# Altium schematic symbol library AMIDA7.SchLib: 26 symbols
Pins are listed as number, name and electrical type; pins without a type are passive.

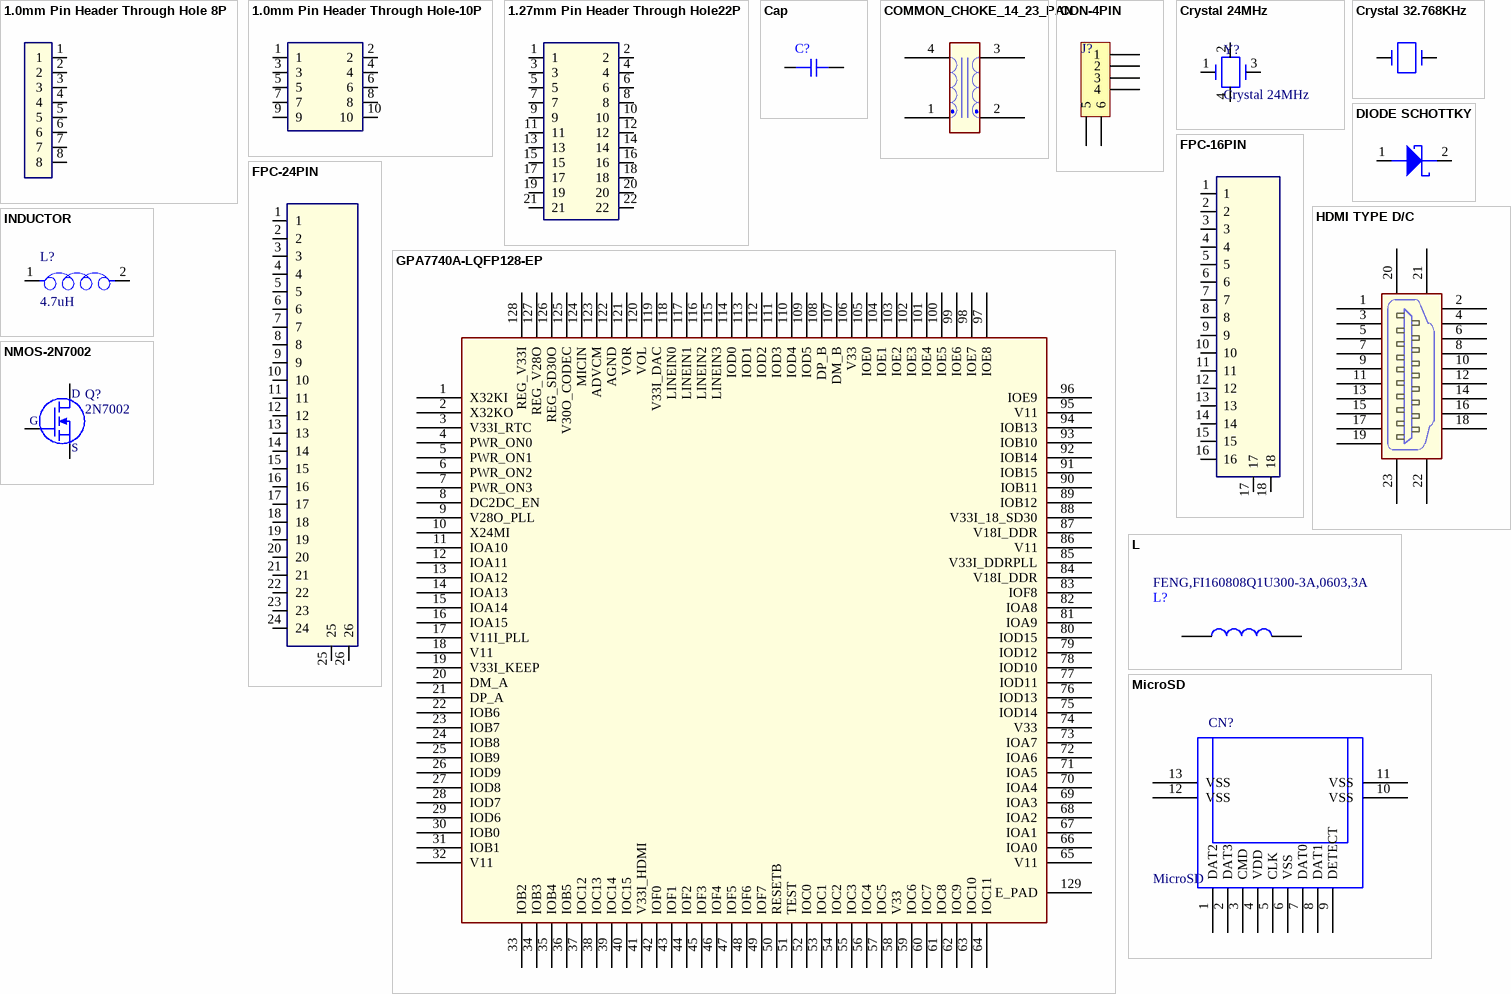
[diagram p0: symbols 1.0mm Pin Header Through Hole 8P to NMOS-2N7002]

## 1.0mm Pin Header Through Hole 8P
designator PANASONIC/EXC24CH900U, comment Pin Header-8pin  (value not drawn)
1.0mm Pin Header Through Hole-8P
footprint 1.0mm Pin Header Through Hole-8P (8P(1x8))
pins: 1, 2, 3, 4, 5, 6, 7, 8

## 1.0mm Pin Header Through Hole-10P
designator J?, comment Pin Header-10pin  (value not drawn)
1.0mm Pin Header Through Hole-10P
footprint 1.0mm Pin Header Through Hole-10P (10P(2x5))
pins: 1, 2, 3, 4, 5, 6, 7, 8, 9, 10

## 1.27mm Pin Header Through Hole22P
designator J?, comment Pin Header-22pin  (value not drawn)
1.27mm Pin Header Through Hole-22P
footprint 1.27mm Pin Header Through Hole-22P (22P(2x11))
pins: 1, 2, 3, 4, 5, 6, 7, 8, 9, 10, 11, 12, 13, 14, 15, 16, 17, 18, 19, 20, 21, 22

## Cap
designator C?
footprint C0402
footprint C0603 (CAP_0603)
footprint C0805
pins: 1, 2

## COMMON_CHOKE_14_23_PAN
designator L?
footprint CHOKE_EXC-24CH900U_PAN
pins: 1, 2, 3, 4

## CON-4PIN
designator J?
footprint P20M2I-04SMT
pins: 1, 2, 3, 4, 5, 6

## Crystal 24MHz
designator Y?
XRCGE24M000FBA1BR0,MURATA,24.0000MHZ,8PF,15PPM,2.0x1.6mm
footprint Crystal 24MHz (XRCGE24M000FBA1BR0,MURATA,24.0000MHZ,8PF,15PPM,2.0x1.6mm)
pins: 1, 2, 3, 4

## Crystal 32.768KHz
designator Y?
Q-SC20S03220C5AAAF,SEIKO,l32.768KHz,12.5PF,20ppm,2.05x1.2mm
footprint Crystal 32.768KHz (Seiko Instruments)
pins: 1, 2

## DIODE SCHOTTKY
designator D?, comment SS14  (value not drawn)
Schottky Diodes & Rectifiers 1A, 40V, Schottky Rectifier
footprint DO-214AC (SMA) (SS14)
pins: 1 ANODE, 2 CATHODE

## FPC-16PIN
designator FPC?  (value not drawn)
WIFI/BLE  FPC-16PIN
footprint MOLEX_FPC_16p (5051101692)
footprint FPC-0.5 pitch 16PIN (冠泰)
pins: 1, 2, 3, 4, 5, 6, 7, 8, 9, 10, 11, 12, 13, 14, 15, 16, 17, 18

## FPC-24PIN
designator FPC?  (value not drawn)
MIPI FPC-24PIN
footprint MOLEX_FPC_24p (5051102491)
footprint FPC-0.5 pitch 24PIN (冠泰)
pins: 1, 2, 3, 4, 5, 6, 7, 8, 9, 10, 11, 12, 13, 14, 15, 16, 17, 18, 19, 20, 21, 22, 23, 24, 25, 26

## GPA7740A-LQFP128-EP
designator U?
footprint TQFP128P 1600X1600X160-129N (GPA7740A)
pins: 1 X32KI, 2 X32KO, 3 V33I_RTC, 4 PWR_ON0, 5 PWR_ON1, 6 PWR_ON2, 7 PWR_ON3, 8 DC2DC_EN, 9 V28O_PLL, 10 X24MI, 11 IOA10, 12 IOA11, 13 IOA12, 14 IOA13, 15 IOA14, 16 IOA15, 17 V11I_PLL, 18 V11, 19 V33I_KEEP, 20 DM_A, 21 DP_A, 22 IOB6, 23 IOB7, 24 IOB8, 25 IOB9, 26 IOD9, 27 IOD8, 28 IOD7, 29 IOD6, 30 IOB0, 31 IOB1, 32 V11, 33 IOB2, 34 IOB3, 35 IOB4, 36 IOB5, 37 IOC12, 38 IOC13, 39 IOC14, 40 IOC15, 41 V33I_HDMI, 42 IOF0, 43 IOF1, 44 IOF2, 45 IOF3, 46 IOF4, 47 IOF5, 48 IOF6, 49 IOF7, 50 RESETB, 51 TEST, 52 IOC0, 53 IOC1, 54 IOC2, 55 IOC3, 56 IOC4, 57 IOC5, 58 V33, 59 IOC6, 60 IOC7, 61 IOC8, 62 IOC9, 63 IOC10, 64 IOC11, 65 V11, 66 IOA0, 67 IOA1, 68 IOA2, 69 IOA3, 70 IOA4, 71 IOA5, 72 IOA6, 73 IOA7, 74 V33, 75 IOD14, 76 IOD13, 77 IOD11, 78 IOD10, 79 IOD12, 80 IOD15, 81 IOA9, 82 IOA8, 83 IOF8, 84 V18I_DDR, 85 V33I_DDRPLL, 86 V11, 87 V18I_DDR, 88 V33I_18_SD30, 89 IOB12, 90 IOB11, 91 IOB15, 92 IOB14, 93 IOB10, 94 IOB13, 95 V11, 96 IOE9, 97 IOE8, 98 IOE7, 99 IOE6, 100 IOE5, 101 IOE4, 102 IOE3, 103 IOE2, 104 IOE1, 105 IOE0, 106 V33, 107 DM_B, 108 DP_B, 109 IOD5, 110 IOD4, 111 IOD3, 112 IOD2, 113 IOD1, 114 IOD0, 115 LINEIN3, 116 LINEIN2, 117 LINEIN1, 118 LINEIN0, 119 V33I_DAC, 120 VOL, 121 VOR, 122 AGND, 123 ADVCM, 124 MICIN, 125 V30O_CODEC, 126 REG_SD30O, 127 REG_V28O, 128 REG_V33I, 129 E_PAD

## HDMI TYPE D/C
designator HDMI?, comment HDMI TYPE C  (value not drawn)
footprint HDMI TYPE D
footprint HDMI TYPE C
pins: 1 $PIN0, 2, 3, 4, 5, 6, 7, 8, 9, 10, 11, 12, 13, 14, 15, 16, 17, 18, 19, 20, 21, 22, 23

## INDUCTOR
designator L?, comment 4.7uH
footprint IND-HPI0402 (HPI 04 SERIES)
pins: 1, 2

## L
designator L?, comment FENG,FI160808Q1U300-3A,0603,3A
L; Code_IEC: 1005; Value: 10mH; Published: 8-Jun-2000; LatestRevisionDate: 29-May-2009; LatestRevisionNote: IPC-7351 Footprint Added.; PackageReference: 0402-A; Publisher: Altium Limited; PackageDescription: Chip Inductor; Code_JEITA: 0402
footprint C0805
footprint C0603 (CAP_0603)
footprint INDC2016X100N
pins: 1, 2

## MicroSD
designator CN?
footprint MicroSD
pins: 1 DAT2, 2 DAT3, 3 CMD, 4 VDD, 5 CLK, 6 VSS, 7 DAT0, 8 DAT1, 9 DETECT, 10 VSS, 11 VSS, 12 VSS, 13 VSS

## NMOS-2N7002
designator Q?, comment 2N7002
MOSFET N-CHANNEL 60V 115mA
footprint SMD-SOT-23
pins: 1 G, 2 S, 3 D

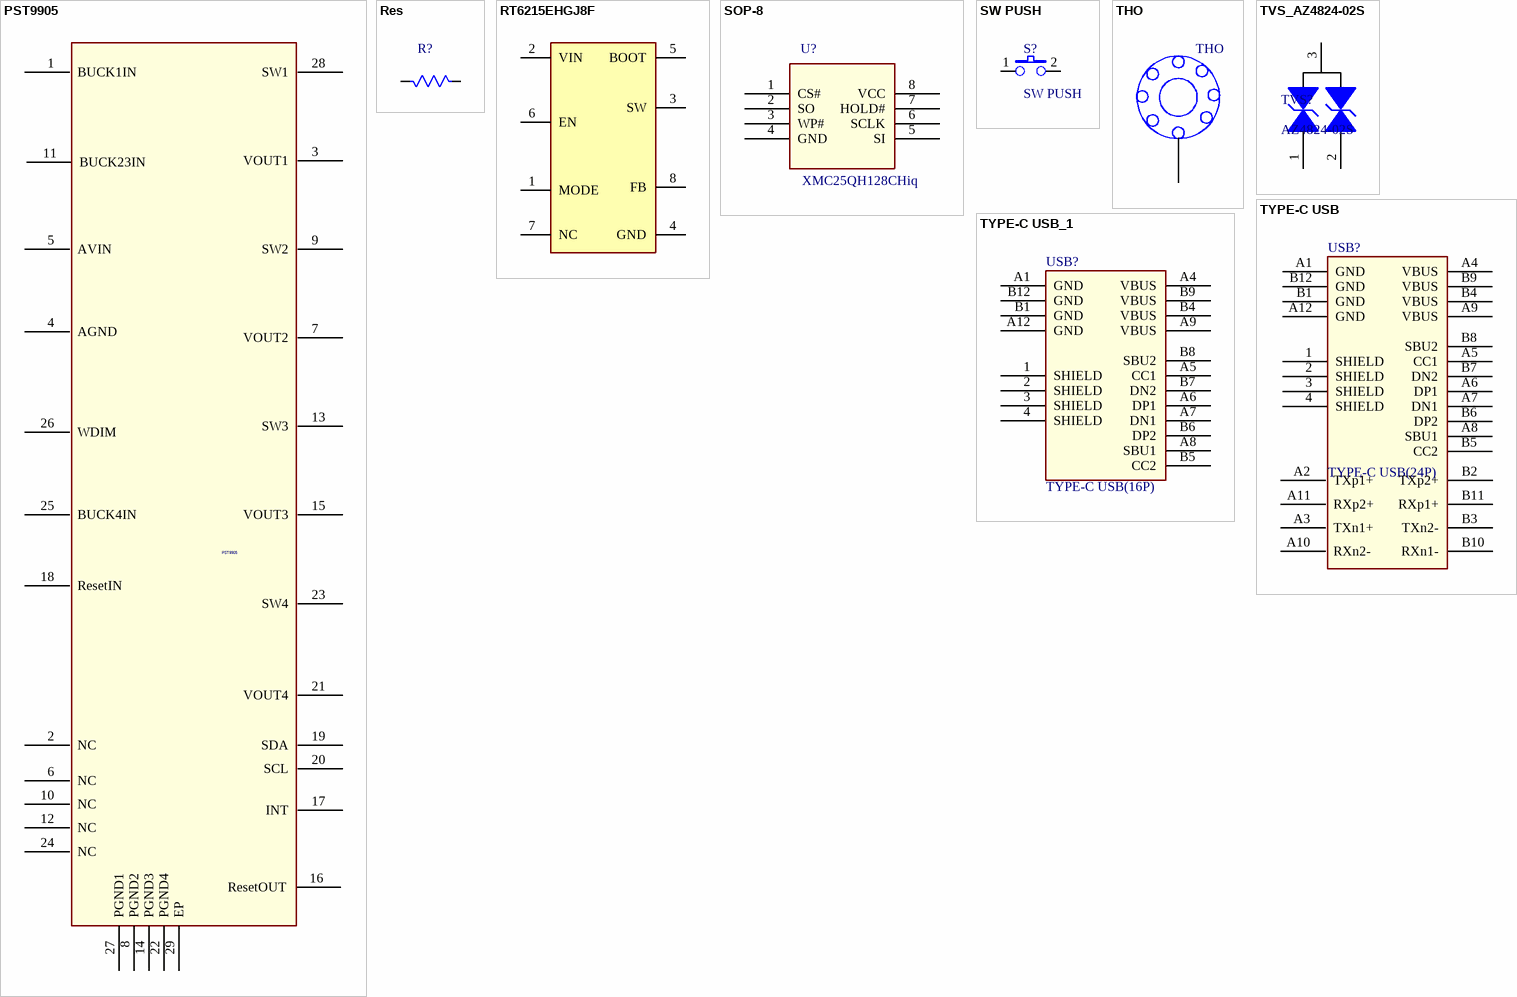
[diagram p1: symbols PST9905 to TYPE-C USB_1]

## PST9905
designator U?
4-Channel Power Management IC for Automotive System
footprint QFN 5X5 28PIN (QFN, 28-Leads, Body 5.00x5.00mm, Pitch 0.50mm, Thermal Pad 3.25x3.25mm, IPC Medium Density)
pins: 1 BUCK1IN, 2 NC, 3 VOUT1, 4 AGND, 5 AVIN, 6 NC, 7 VOUT2, 8 PGND2, 9 SW2, 10 NC, 11 BUCK23IN, 12 NC, 13 SW3, 14 PGND3, 15 VOUT3, 16 ResetOUT, 17 INT, 18 ResetIN, 19 SDA, 20 SCL, 21 VOUT4, 22 PGND4, 23 SW4, 24 NC, 25 BUCK4IN, 26 WDIM, 27 PGND1, 28 SW1, 29 EP

## Res
designator R?
footprint R0603 (RES_1609-0603)
footprint R0402 (RES_0402)
pins: 1, 2

## RT6215EHGJ8F
designator U?  (value not drawn)
DC/DC CONV, SYNC BUCK, 500KHZ, TSOT-23-8; Topology:Synchronous Buck (Step Down); Input Voltage Min:4.5V; Input Voltage Max:24V; No. of Outputs:1Outputs; DC / DC Converter IC Case:TSOT-23; No. of Pins:8Pins; Output Current:2A; Output RoHS Compliant: Yes; Manufacturer_Name: RICHTEK; Geometry.Height: 1mm; Mouser Part Number: *; Mouser Price/Stock: *; Manufacturer_Part_Number: RT6215EHGJ8F; Datasheet Link: https://componentsearchengine.com/Datasheets/2/RT6215EHGJ8F.pdf
footprint SOT65P280X100-8N
pins: 1 MODE, 2 VIN, 3 SW, 4 GND, 5 BOOT, 6 EN, 7 NC, 8 FB

## SOP-8
designator U?, comment XMC25QH128CHiq
footprint SOIC127P790X216-8N(MX25L3233F) (200mil)
pins: 1 CS#, 2 SO, 3 WP#, 4 GND, 5 SI, 6 SCLK, 7 HOLD#, 8 VCC

## SW PUSH
designator S?
footprint Surface Mount Right Angle Switch
pins: 1, 2

## THO
designator H?
footprint TPH-3.4mm
pins: 0

## TVS_AZ4824-02S
designator TVS?, comment AZ4824-02S
footprint SOT-23-3L
pins: 1 A, 1 A, 1, 2 K, 2 K, 2, 3

## TYPE-C USB
designator USB?, comment TYPE-C USB(24P)
footprint Type C USB
pins: 1 SHIELD, 2 SHIELD, 3 SHIELD, 4 SHIELD, A1 GND, A2 TXp1+, A3 TXn1+, A4 VBUS, A5 CC1, A6 DP1, A7 DN1, A8 SBU1, A9 VBUS, A10 RXn2-, A11 RXp2+, A12 GND, B1 GND, B2 TXp2+, B3 TXn2-, B4 VBUS, B5 CC2, B6 DP2, B7 DN2, B8 SBU2, B9 VBUS, B10 RXn1-, B11 RXp1+, B12 GND

## TYPE-C USB_1
designator USB?, comment TYPE-C USB(16P)
footprint Type C USB (16P)
pins: 1 SHIELD, 2 SHIELD, 3 SHIELD, 4 SHIELD, A1 GND, A4 VBUS, A5 CC1, A6 DP1, A7 DN1, A8 SBU1, A9 VBUS, A12 GND, B1 GND, B4 VBUS, B5 CC2, B6 DP2, B7 DN2, B8 SBU2, B9 VBUS, B12 GND